# Altium integrated library CRAFT_CurrentSense.IntLib: 8 symbols
Pins are listed as number, name and electrical type; pins without a type are passive.

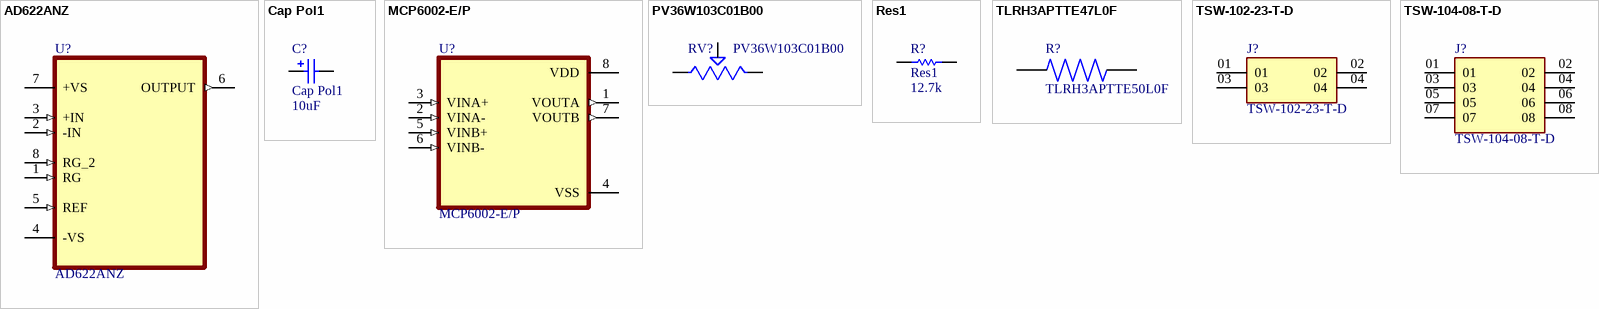
[diagram p0: symbols AD622ANZ to TSW-104-08-T-D]

## AD622ANZ
designator U?
Instrumentation Amplifier 1 Circuit 8-PDIP; MF: Analog Devices; MP: AD622ANZ; Availability: Unavailable; SnapEDA_Link: https://www.snapeda.com/parts/AD622ANZ/Analog%20Devices%20Inc./view-part/207874/?ref=snap; Package: PDIP-8 Analog Devices; Price: None; Value: *
footprint DIP254P762X533-8
pins: 1 RG (in), 2 -IN (in), 3 +IN (in), 4 -VS (power), 5 REF (in), 6 OUTPUT (out), 7 +VS (power), 8 RG_2 (in)

## Cap Pol1
designator C?  value 10uF
Polarized Capacitor (Radial); Published: 8-Jun-2000; LatestRevisionDate: 17-Jul-2002; LatestRevisionNote: Re-released for DXP Platform.; PackageReference: RB7.6-15; Publisher: Altium Limited; PackageDescription: Polarized Capacitor (Radial); 2 Leads
simulation model CAP (Capacitor)
signal-integrity model Cap Pol
footprint CAPPRD750W80D1600H2700
pins: 1, 2
1 alternate drawing of the same symbol

## MCP6002-E/P
designator U?
General Purpose Amplifier 2 Circuit Rail-to-Rail 8-PDIP; MF: Microchip; Value: *; Availability: Unavailable; Price: None; MP: MCP6002-E/P; Package: DIP-8 Microchip; SnapEDA_Link: https://www.snapeda.com/parts/MCP6002-E/P/Microchip/view-part/228325/?ref=snap
footprint DIP787W46P254L927H533Q8
pins: 1 VOUTA (out), 2 VINA- (in), 3 VINA+ (in), 4 VSS (power), 5 VINB+ (in), 6 VINB- (in), 7 VOUTB (out), 8 VDD (power)

## PV36W103C01B00
designator RV?
10 kOhms 0.5W, 1/2W PC Pins Through Hole Trimmer Potentiometer Cermet 25 Turn Top Adjustment; MF: Bourns; Availability: Unavailable; MP: PV36W103C01B00; Price: None; Value: *; SnapEDA_Link: https://www.snapeda.com/parts/PV36W103C01B00/Bourns/view-part/1439094/?ref=snap; Package: 6332 Bourns
footprint TRIM_PV36W103C01B00
pins: 1, 2, 3

## Res1
designator R?  value 12.7k
Resistor; Published: 8-Jun-2000; LatestRevisionDate: 17-Jul-2002; LatestRevisionNote: Re-released for DXP Platform.; PackageReference: AXIAL-0.3; Publisher: Altium Limited; PackageDescription: Axial Device, Thru-Hole; 2 Leads; 0.3 in Pin Spacing
footprint AXIAL-0.3 (Axial Device, Thru-Hole; 2 Leads; 0.3 in Pin Spacing)
simulation model RESISTOR (Resistor)
signal-integrity model Res
pins: 1, 2

## TLRH3APTTE47L0F
designator R?, comment TLRH3APTTE50L0F
Res Metal Plate 2512 0.047 Ohm 1% 4W Â±50ppm/C Pad SMD Automotive T/R; MP: TLRH3APTTE47L0F; Package: None; Price: None; Value: *; Availability: Unavailable
footprint RESC6332X70N
pins: 1, 2

## TSW-102-23-T-D
designator J?
Package: None; Price: None; Value: *; MP: TSW-102-23-T-D; Availability: Unavailable
footprint SAMTEC_TSW-102-23-T-D
pins: 01, 02, 03, 04

## TSW-104-08-T-D
designator J?
Package: None; Price: None; Value: *; MP: TSW-104-08-T-D; Availability: Unavailable
footprint SAMTEC_TSW-104-08-T-D
pins: 01, 02, 03, 04, 05, 06, 07, 08